# Altium footprint library CN_IDC50_918550X903.PcbLib: 1 footprints
Each footprint in its own frame and in the unit in brackets; x right, y up, seen from the top. Pads: shape width x height; smd on the part's side, far side on the other; paste and mask are expansions set on the pad; w line width, h text height; cw(c..) or ccw(c..) is an arc to the next point about the centre after c.
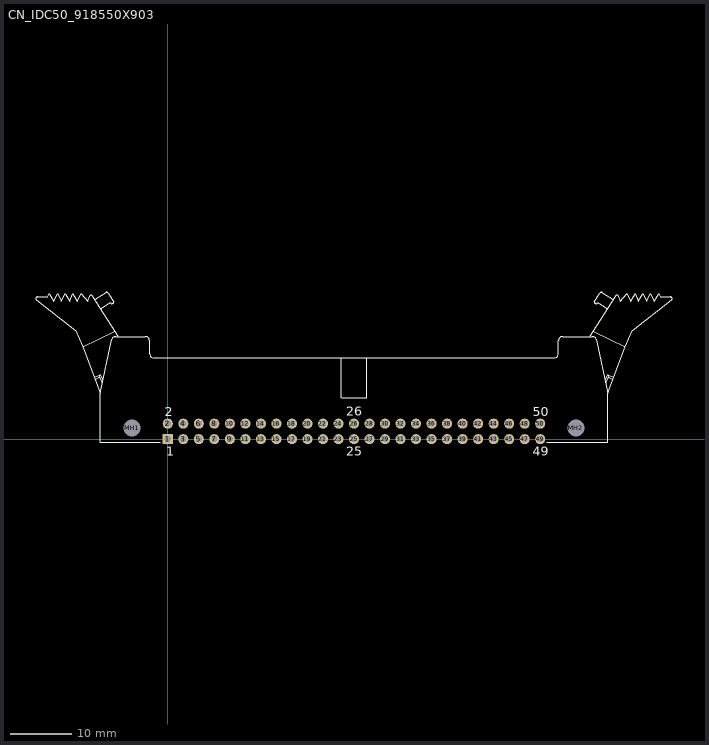
[diagram p0: the footprint, top view; thin cyan lines are the x and y axes]

## CN_IDC50_918550X903 [mm] "Connector; IDC, Thru-Hole; 50 Position; Right Angle; Pitch 2.54 mm; Body 83.10 x 8.5 x 25.75 mm (LxHxW), Locking levers"
height 25.75
pads (52):
  rect 1.65x1.65 hole 1: 1(0,0)
  round 1.65 hole 1: 2(0,2.54) 3(2.54,0) 4(2.54,2.54) 5(5.08,0) 6(5.08,2.54) 7(7.62,0) 8(7.62,2.54) 9(10.16,0) 10(10.16,2.54) 11(12.7,0) 12(12.7,2.54) 13(15.24,0) 14(15.24,2.54) 15(17.78,0) 16(17.78,2.54) 17(20.32,0) 18(20.32,2.54) 19(22.86,0) 20(22.86,2.54) 21(25.4,0) 22(25.4,2.54) 23(27.94,0) 24(27.94,2.54) 25(30.48,0) 26(30.48,2.54) 27(33.02,0) 28(33.02,2.54) 29(35.56,0) 30(35.56,2.54) 31(38.1,0) 32(38.1,2.54) 33(40.64,0) 34(40.64,2.54) 35(43.18,0) 36(43.18,2.54) 37(45.72,0) 38(45.72,2.54) 39(48.26,0) 40(48.26,2.54) 41(50.8,0) 42(50.8,2.54) 43(53.34,0) 44(53.34,2.54) 45(55.88,0) 46(55.88,2.54) 47(58.42,0) 48(58.42,2.54) 49(60.96,0) 50(60.96,2.54)
  round 2.5 hole 2.8 unplated: MH1(-5.84,1.8) MH2(66.8,1.8)
Top Overlay:
  lines w0.2: -14.15,23.771 -14.78,22.571 -15.53,23.771 -16.08,22.571 -16.78,23.771 -17.4,22.571 -18.05,23.771 -18.651,22.571 -19.395,23.771 ; -14.15,23.771 -13.12,22.571 -12.713,23.535 cw(c-12.571,23.226) -12.248,23.328 -8.114,16.8 ; -12.04,10.121 -11.075,10.57 ; -11.911,9.833 -11.24,10.147 ; -11.905,22.87 -10.182,23.995 cw(c-10.033,23.657) -9.767,23.914 -8.842,22.515 cw(c-9.162,22.495) -9.214,22.18 ccw(c-9.482,21.865) -9.617,22.255 ; -10.983,21.373 -9.62,22.261 ; -10.713,9.195 -11.24,10.147 ; -10.613,9.648 -11.075,10.57 ; -8.685,17.653 -13.909,15.11 ; -8.53,16.8 -3.67,16.8 ; -8.52,16.8 ccw(c-8.535,16.1) -9.18,16.372 -11.07,7.5 ; -3.685,16.8 cw(c-3.685,16.1) -2.985,16.1 -2.985,14 ccw(c-2.285,14) -2.285,13.3 63.245,13.3 ccw(c63.245,14) 63.945,14 63.945,16.1 cw(c64.645,16.1) 64.645,16.8 ; -1.225,-0.5 -11.07,-0.5 -11.07,7.5 ; 28.43,6.8 28.43,13.3 ; 28.44,6.8 32.54,6.8 ; 32.53,6.804 32.53,13.3 ; 62.07,-0.5 72.03,-0.5 72.03,7.5 ; 64.63,16.8 69.49,16.8 ; 69.074,16.8 73.208,23.328 cw(c73.531,23.226) 73.673,23.535 74.08,22.571 75.11,23.771 75.74,22.571 76.49,23.771 77.04,22.571 77.74,23.771 78.36,22.571 79.01,23.771 79.61,22.571 80.354,23.771 ; 69.48,16.8 cw(c69.495,16.1) 70.14,16.372 72.03,7.5 ; 69.645,17.653 74.869,15.11 ; 70.577,22.255 ccw(c70.442,21.865) 70.174,22.18 cw(c70.122,22.495) 69.802,22.515 70.727,23.914 cw(c70.993,23.657) 71.142,23.995 72.865,22.87 ; 70.58,22.261 71.943,21.373 ; 71.573,9.648 72.035,10.57 ; 71.673,9.195 72.2,10.147 ; 72.871,9.833 72.2,10.147 ; 73,10.121 72.035,10.57 ; -19.65,23.3 -19.395,23.771 ; -19.65,23.3 -19.395,23.771 ; -19.65,23.3 -21.261,23.3 ccw(c-21.261,22.96) -21.57,22.819 -15.035,17.725 -13.909,15.11 ; -13.909,15.11 -11.07,7.5 ; -11.24,10.147 -11.075,10.57 ; 72.03,7.5 74.869,15.11 ; 72.035,10.57 72.2,10.147 ; 74.869,15.11 75.995,17.725 82.53,22.819 ccw(c82.221,22.96) 82.221,23.3 80.61,23.3 ; 80.354,23.771 80.61,23.3 ; 80.354,23.771 80.61,23.3
  text "25" at 29.23,-2.7 h1.5
  text "26" at 29.21,3.81 h1.5
  text "2" at -0.5,3.74 h1.5
  text "1" at -0.25,-2.7 h1.5
  text "50" at 59.71,3.74 h1.5
  text "49" at 59.71,-2.7 h1.5
3D body: height 8.5, standoff -3.2, extent -11.07,-1.054 72.03,24.696